# EAGLE library part BQ25887 (library Bauteile)
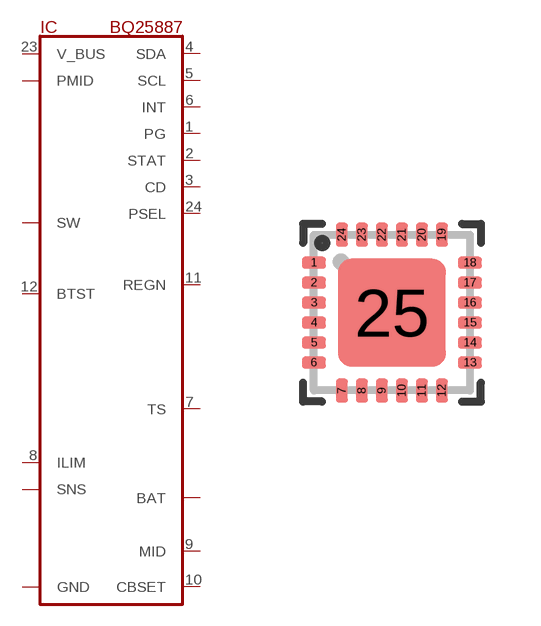
[diagram p115: symbol with the pads of QFN24-0.5; footprint QFN24-0.5]

Designator prefix IC

## BQ25887  [QFN24-0.5]
1  PG
2  STAT
3  CD
4  SDA
5  SCL
6  INT
7  TS
8  ILIM
9  MID
10  CBSET
11  REGN
12  BTST
13  BAT
14  BAT
15  SNS
16  SNS
17  SW
18  SW
19  GND
20  GND
21  PMID
22  PMID
23  V_BUS
24  PSEL

## Footprint QFN24-0.5 (pad centres in mm)
smd 0.6 x 0.3: 1 -1.95,1.25; 2 -1.95,0.75; 3 -1.95,0.25; 4 -1.95,-0.25; 5 -1.95,-0.75; 6 -1.95,-1.25; 13 1.95,-1.25; 14 1.95,-0.75; 15 1.95,-0.25; 16 1.95,0.25; 17 1.95,0.75; 18 1.95,1.25
smd 0.3 x 0.6: 7 -1.25,-1.95; 8 -0.75,-1.95; 9 -0.25,-1.95; 10 0.25,-1.95; 11 0.75,-1.95; 12 1.25,-1.95; 19 1.25,1.95; 20 0.75,1.95; 21 0.25,1.95; 22 -0.25,1.95; 23 -0.75,1.95; 24 -1.25,1.95
smd 2.7 x 2.7: 25 0,0